# Altium footprint library XS library.PcbLib: 379 footprints (part 13 of 24)
Each footprint in its own frame and in the unit in brackets; x right, y up, seen from the top. Pads: shape width x height; smd on the part's side, far side on the other; paste and mask are expansions set on the pad; w line width, h text height; cw(c..) or ccw(c..) is an arc to the next point about the centre after c.
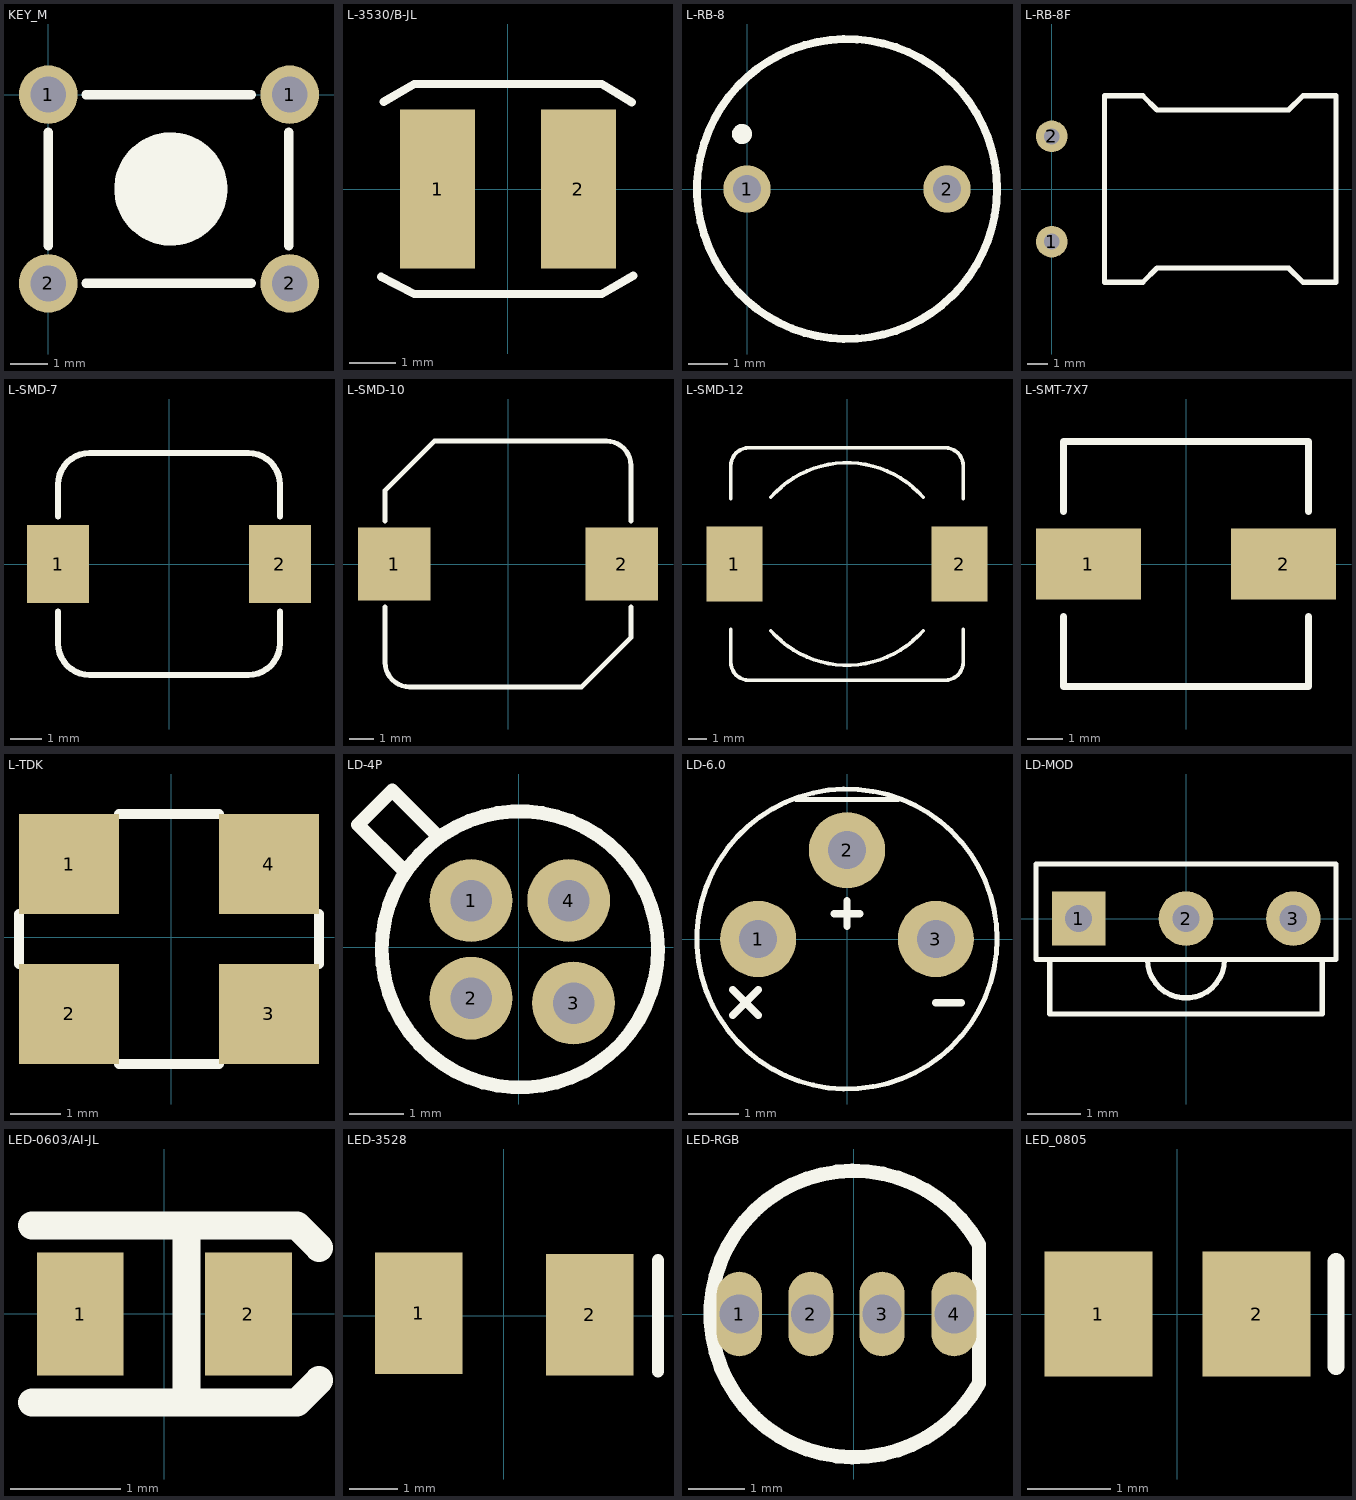
[diagram p12: the footprints below, top view; thin cyan lines are the x and y axes]

## KEY_M [mil]
pads (4):
  round 62 hole 38: 1(0,0) 1(255.91,0) 2(0,-200) 2(255.91,-200)
Top Overlay:
  circle w60: c130,-100 r30
  lines w10: -0.03,-160 -0.03,-40 ; 39.97,-200 215,-200 ; 39.97,0 215,0 ; 255,-160 255,-40

## L-3530/B-JL [mm]
pads (2):
  rect 1.6x3.4 smd: 1(-1.5,0) 2(1.5,0)
Top Overlay:
  lines w0.178: -2.71,-1.87 -2,-2.24 2,-2.24 2.67,-1.85 ; -2.65,1.86 -2,2.24 2,2.24 2.64,1.85

## L-RB-8 [mm] "Inductor"
pads (2):
  round 1.2 hole 0.7: 1(0,0) 2(5.08,0)
Top Overlay:
  circle w0.2: c2.54,0 r3.81
  circle w0.254: c-0.127,1.397 r0.127

## L-RB-8F [mil] "ֱ?"
height 472.44
pads (2):
  round 60 hole 30: 1(0,-100) 2(0,100)
Top Overlay:
  lines w10: 100,-177.17 100,177.17 172.83,177.17 200,150 450,150 477.17,177.17 540,177.17 540,-177.17 477.17,-177.17 450,-150 200,-150 172.83,-177.17 100,-177.17

## L-SMD-7 [mm] "贴片电感7*7"
pads (2):
  rect 2x2.5 smd: 1(-3.556,0) 2(3.556,0)
Top Overlay:
  lines w0.2: -3.556,-1.524 -3.556,-2.54 ccw(c-2.54,-2.54) -2.54,-3.556 2.54,-3.556 ccw(c2.54,-2.54) 3.556,-2.54 3.556,-1.524 ; -3.556,1.524 -3.556,2.54 cw(c-2.54,2.54) -2.54,3.556 2.54,3.556 cw(c2.54,2.54) 3.556,2.54 3.556,1.524
3D body: height 4, standoff 0, extent -3.556,-3.556 3.556,3.556

## L-SMD-10 [mm] "贴片电感10*10"
pads (2):
  rect 3x3 smd: 1(-4.699,0) 2(4.699,0)
Top Overlay:
  lines w0.2: -5.08,-1.778 -5.08,-4.064 ccw(c-4.064,-4.064) -4.064,-5.08 3.048,-5.08 5.08,-3.048 5.08,-1.778 ; -5.08,1.778 -5.08,3.048 -3.048,5.08 4.064,5.08 cw(c4.064,4.064) 5.08,4.064 5.08,1.778
3D body: height 4, standoff 0, extent -5.08,-5.08 5.08,5.08

## L-SMD-12 [mm] "贴片电感12*12"
height 4
pads (2):
  rect 3x4 smd: 1(-6,0) 2(6,0)
Top Overlay:
  lines w0.2: -6.2,-3.475 -6.2,-5.23 ccw(c-5.23,-5.23) -5.23,-6.2 5.23,-6.2 ccw(c5.23,-5.23) 6.2,-5.23 6.2,-3.475 ; -6.2,3.475 -6.2,5.23 cw(c-5.23,5.23) -5.23,6.2 5.23,6.2 cw(c5.23,5.23) 6.2,5.23 6.2,3.475 ; -4.064,-3.556 ccw(c0,0) 4.064,-3.556 ; -4.064,3.556 cw(c0,0) 4.064,3.556
3D body: height 0.6, standoff 0, extent -6.207,-6.233 6.207,6.182
3D body: height 2.5, standoff 0.3, extent -5.273,-5.303 5.315,5.29

## L-SMT-7X7 [mil]
pads (2):
  rect 118.11x80 smd: 1(-110,0) 2(110,0)
Top Overlay:
  lines w7.87: -137.79,-59.05 -137.79,-137.79 137.8,-137.79 137.8,-59.05 ; -137.79,59.06 -137.79,137.8 137.8,137.8 137.8,59.06

## L-TDK [mm]
height 10
pads (4):
  rect 2x2 smd: 1(-2.048,1.46) 2(-2.048,-1.54) 3(1.952,-1.54) 4(1.952,1.46)
Top Overlay:
  lines w0.2: -3.048,-0.54 -3.048,0.46 ; -1.048,-2.54 0.952,-2.54 ; -1.048,2.46 0.952,2.46 ; 2.952,-0.54 2.952,0.46

## LD-4P [mil]
pads (4):
  round 60 hole 30: 1(-34.71,33.93) 2(-34.71,-36.78) 3(39.54,-40.33) 4(35.98,33.92)
Top Overlay:
  circle w10: c0.64,-1.43 r100
  lines w9.84: -84.75,57.04 -116.57,88.86 -91.82,113.61 -60,81.79

## LD-6.0 [mil] "激光直¾"
height 511.81
pads (3):
  round 60 hole 30: 1(-70,0) 2(0,70) 3(70,0)
Top Overlay:
  circle w3.94: c0,0 r118.11
  lines w3.94: -40,110 40,110
  lines w5.91: -90,-60 -70,-40 ; -90,-40 -70,-60 ; -10,20 10,20 ; 0,10 0,30 ; 70,-50 90,-50

## LD-MOD [mm] "激光"
height 5
pads (3):
  rect 1x1 hole 0.5: 1(-2,0)
  round 1.016 hole 0.5: 2(0,0)
  round 1.016 hole 0.508: 3(2,0)
Top Overlay:
  lines w0.1: -2.54,-0.762 -2.54,-1.778 2.54,-1.778 2.54,-0.762 ; -0.718,-0.762 ccw(c0,-0.762) 0.718,-0.762 ; -2.794,-0.762 2.794,-0.762 2.794,1.016 -2.794,1.016 -2.794,-0.762

## LED-0603/AI-JL [mm]
pads (2):
  rect 0.787x1.11 smd: 1(-0.761,0) 2(0.762,0)
Top Overlay:
  lines w0.254: -1.2,-0.8 1.2,-0.8 1.4,-0.6 ; -1.2,0.8 1.2,0.8 1.4,0.6 ; 0.2,-0.7 0.2,0.7

## LED-3528 [mm] "贴片二极管"
height 3
pads (2):
  rect 1.8x2.5 smd: 1(-1.753,0.052) 2(1.772,0.027)
Top Overlay:
  lines w0.254: 3.175,-1.143 3.175,1.143

## LED-RGB [mm] "三基色二极管"
height 6
pads (4):
  oval 0.8x1.5 hole 0.7: 1(-2.032,0) 2(-0.762,0) 3(0.5,0) 4(1.778,0)
Top Overlay:
  lines w0.254: 2.22,-1.234 cw(c0,0) 2.22,1.234 2.22,-1.234

## LED_0805 [mm] "贴片二极管"
height 1.1
pads (2):
  rect 1.3x1.5 smd: 1(-0.95,0) 2(0.95,0)
Top Overlay:
  lines w0.2: 1.905,-0.635 1.905,0.635